# Altium schematic symbol library 8-LDO.SchLib: 13 symbols
Pins are listed as number, name and electrical type; pins without a type are passive.

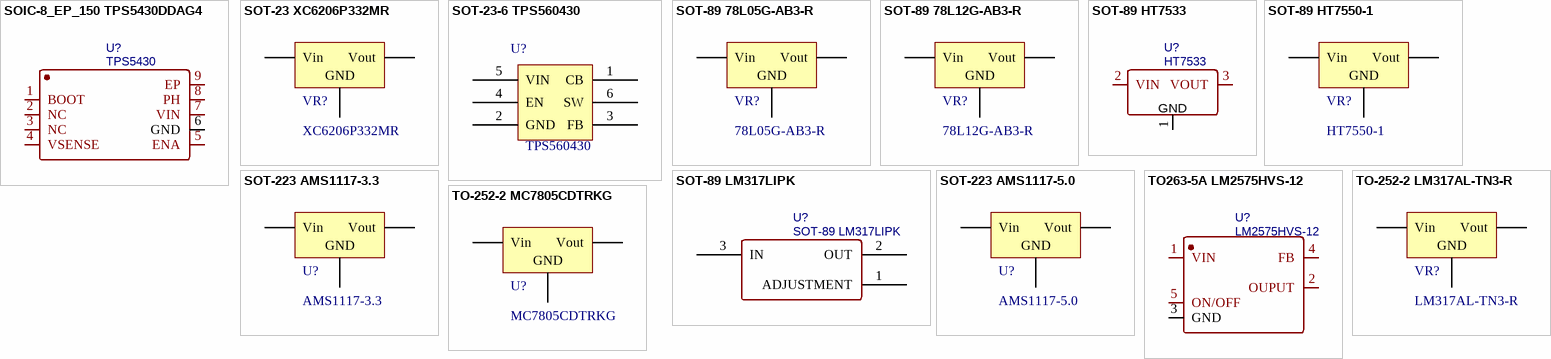
[diagram p0: symbols SOIC-8_EP_150 TPS5430DDAG4 to TO-252-2 MC7805CDTRKG]

## SOIC-8_EP_150 TPS5430DDAG4
designator U?, comment TPS5430
DC-DC芯片; BOM_Manufacturer: Texas Instruments; BOM_Manufacturer Part: TPS5430DDAG4; Contributor: LCSC; BOM_Supplier: LCSC; BOM_Supplier Part: C201628; spicePre: U
footprint SOIC-8_EP_150mil
pins: 1 BOOT, 2 NC, 3 NC, 4 VSENSE, 5 ENA, 6 GND, 7 VIN, 8 PH, 9 EP

## SOT-23 XC6206P332MR
designator VR?, comment XC6206P332MR
低压差线性稳压(LDO); ComponentLink1Description: 供应商链接; ComponentLink1URL: http://www.szlcsc.com/product/details_5896.html; Package: SOT-23; Supplier: LC; SuppliersPartNumber: C5446
footprint SOT-23-3L (http://www.aosmd.com/res/packaging_information/SOT-23-3L.pdf)
pins: 1 GND, 2 Vout, 3 Vin

## SOT-23-6 TPS560430
designator U?  value TPS560430  (hidden comment: SOT-23-6 TPS560430)
footprint SOT-23-6
pins: 1 CB, 2 GND, 3 FB, 4 EN, 5 VIN, 6 SW

## SOT-89 78L05G-AB3-R
designator VR?, comment 78L05G-AB3-R
低压差线性稳压(LDO); ComponentLink1Description: 供应商链接; ComponentLink1URL: http://www.szlcsc.com/product/details_72235.html; Package: SOT-89; Supplier: LC; SuppliersPartNumber: C71136
footprint SOT-89(SOT-89-3)
pins: 1 Vout, 2 GND, 3 Vin

## SOT-89 78L12G-AB3-R
designator VR?, comment 78L12G-AB3-R
低压差线性稳压(LDO); ComponentLink1Description: 供应商链接; ComponentLink1URL: http://www.szlcsc.com/product/details_76626.html; Package: SOT-89; Supplier: LC; SuppliersPartNumber: C75501
footprint SOT-89(SOT-89-3)
pins: 1 Vout, 2 GND, 3 Vin

## SOT-89 HT7533
designator U?, comment HT7533
低压差线性稳压(LDO); BOM_Manufacturer: HOLTEK; SMT Type: Extend; BOM_Supplier: LCSC; BOM_Manufacturer Part: HT7533; BOM_Supplier Part: C89203; BOM_LCSC Assembly: Yes; spicePre: U
footprint SOT-89(SOT-89-3)
pins: 1 GND, 2 VIN, 3 VOUT

## SOT-89 HT7550-1
designator VR?, comment HT7550-1
低压差线性稳压(LDO); ComponentLink1Description: 供应商链接; ComponentLink1URL: http://www.szlcsc.com/product/details_16788.html; Package: SOT-89; Supplier: LC; SuppliersPartNumber: C16106
footprint SOT-89(SOT-89-3)
pins: 1 GND, 2 Vin, 3 Vout

## SOT-89 LM317LIPK
designator U?
低压差线性稳压(LDO); BOM_Manufacturer: TI; SMT Type: Extend; BOM_Supplier: LCSC; BOM_Manufacturer Part: LM317LIPK; BOM_Supplier Part: C112537; BOM_LCSC Assembly: Yes; spicePre: U
footprint SOT-89(SOT-89-3)
pins: 1 ADJUSTMENT, 2 OUT, 3 IN

## SOT-223 AMS1117-3.3
designator U?, comment AMS1117-3.3
低压差线性稳压(LDO); ComponentLink1Description: 供应商链接; ComponentLink1URL: http://www.szlcsc.com/product/details_6652.html; Package: SOT-223; Supplier: LC; SuppliersPartNumber: C6186
footprint SOT-223
pins: 1 GND, 2 Vout, 3 Vin

## SOT-223 AMS1117-5.0
designator U?, comment AMS1117-5.0
低压差线性稳压(LDO); ComponentLink1Description: 供应商链接; ComponentLink1URL: http://www.szlcsc.com/product/details_6653.html; Package: SOT-223; Supplier: LC; SuppliersPartNumber: C6187
footprint SOT-223
pins: 1 GND, 2 Vout, 3 Vin

## TO263-5A LM2575HVS-12
designator U?, comment LM2575HVS-12
线性稳压芯片; BOM_Manufacturer: TI; BOM_Supplier: LCSC; BOM_Manufacturer Part: LM2575HVS-12; BOM_Supplier Part: C111820; spicePre: U
footprint TO263-5A (263，5脚晶体管)
pins: 1 VIN, 2 OUPUT, 3 GND, 4 FB, 5 ON/OFF

## TO-252-2 LM317AL-TN3-R
designator VR?, comment LM317AL-TN3-R
低压差线性稳压(LDO); ComponentLink1Description: 供应商链接; ComponentLink1URL: http://www.szlcsc.com/product/details_76635.html; Package: TO-252-2; Supplier: LC; SuppliersPartNumber: C75510
footprint TO-252-2-180 (180度编带包装)
pins: 1 GND, 2 Vout, 3 Vin

## TO-252-2 MC7805CDTRKG
designator U?, comment MC7805CDTRKG
低压差线性稳压(LDO); ComponentLink1Description: 供应商链接; ComponentLink1URL: https://item.szlcsc.com/55302.html; Package: TO-252-2; Supplier: LC; SuppliersPartNumber: C54285
footprint TO-252-2
pins: 1 Vin, 2 GND, 3 Vout